# EAGLE library part ALD1101SAL (library tcspc_lib)
Dual Matched N channel mosfets, warning, the sources are already connected to eacother via the substrate
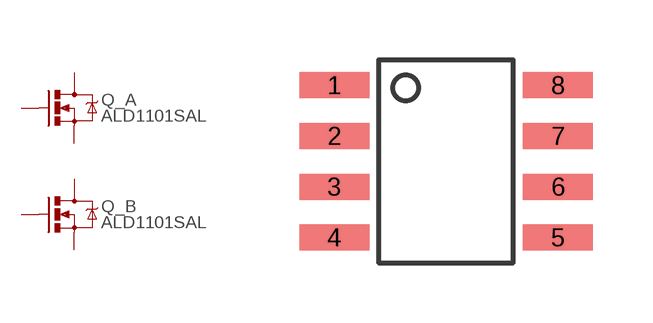
[diagram p3: symbol with the pads of SOIC_8; footprint SOIC_8]

Designator prefix Q; gates _A=MOSFET-NCHANNEL _B=MOSFET-NCHANNEL

## ALD1101SAL  [SOIC_8]
1  _A:S  pas
2  _A:G  pas
3  _A:D  pas
5  _B:D  pas
6  _B:G  pas
7  _B:S  pas
8  _A:S  pas

## Footprint SOIC_8 (pad centres in mm)
smd 1.75 x 0.65: 1 -2.8,1.905; 2 -2.8,0.635; 3 -2.8,-0.635; 4 -2.8,-1.905; 5 2.8,-1.905; 6 2.8,-0.635; 7 2.8,0.635; 8 2.8,1.905